# Altium integrated library LIB2022 - Passives.IntLib: 26 symbols
Pins are listed as number, name and electrical type; pins without a type are passive.

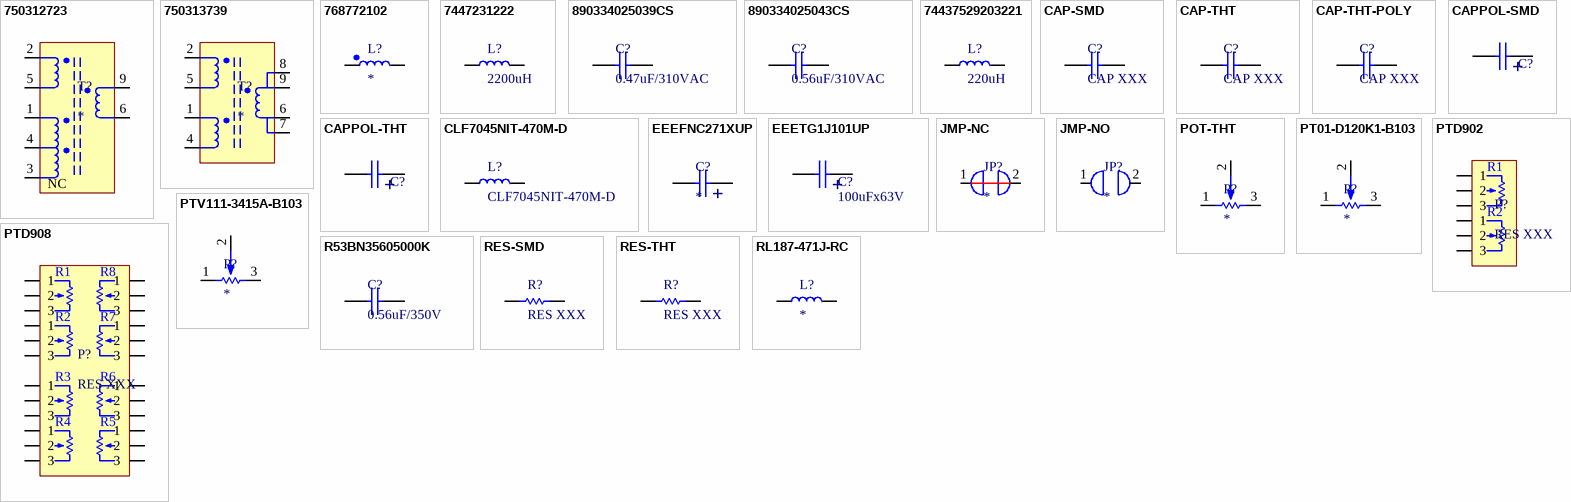
[diagram p0: symbols 750312723 to RL187-471J-RC]

## 750312723
designator T?
Flyback Converters For For DC/DC Converters SMPS Transformer 4500Vrms Isolation 130kHz Through Hole
footprint 750312723
pins: 1, 2, 3 NC, 4, 5, 6, 9

## 750313739
designator T?
Flyback Converters For SMPS Transformer Isolation 115kHz Through Hole
footprint 750313739
pins: 1, 2, 4, 5, 6, 7, 8, 9

## 768772102
designator L?
1 mH Unshielded Drum Core, Wirewound Inductor 500 mA 2.08Ohm Max Radial, Vertical Cylinder (Open)
footprint 768772102
pins: 1, 2

## 7447231222
designator L?, comment 2200uH
2.2 mH Unshielded Wirewound Inductor 540 mA 1.9Ohm Max Radial, Vertical Cylinder, 4 Leads; Digikey_PN: 732-7184-ND
footprint 7447231222 (Choke Inductor 10.5mm)
pins: 1, 2

## 890334025039CS
designator C?, comment 0.47uF/310VAC
0.47 µF Film Capacitor 310VAC 630VDC Polypropylene (PP), Metallized Radial; Digikey_PN: 732-5755-ND
footprint 890334025039CS
pins: 1, 2

## 890334025043CS
designator C?, comment 0.56uF/310VAC
0.56 µF Film Capacitor 310VAC 630VDC Polypropylene (PP), Metallized Radial; Digikey_PN: 732-5756-ND
footprint 890334025043CS
pins: 1, 2

## 74437529203221
designator L?, comment 220uH
220 µH Shielded Drum Core, Wirewound Inductor 8.8 A 36.45mOhm Nonstandard
footprint 74437529203221 (Choke Inductor SMD)
pins: 1, 2

## CAP-SMD
designator C?, comment CAP XXX
footprint 0402-CAP-TDK
footprint 0603-CAP-TDK
footprint 0805-CAP-TDK
footprint 1206-CAP-TDK
footprint 1210-CAP-TDK
pins: 1, 2

## CAP-THT
designator C?, comment CAP XXX
footprint CAP100
footprint CAP200
footprint CAP300
pins: 1, 2

## CAP-THT-POLY
designator C?, comment CAP XXX
footprint CAP300v2
pins: 1, 2

## CAPPOL-SMD
designator C?
footprint DIA8X10-CAP-SMD
pins: 1, 2
text: +

## CAPPOL-THT
designator C?
footprint CAP100RP (Body diameter 5mm)
footprint CAP200RP (Body Diameter 10.33mm)
footprint CAP300RP (Body Diameter 16mm)
pins: 1, 2
text: +

## CLF7045NIT-470M-D
designator L?
47 µH Shielded Drum Core, Wirewound Inductor 1.26 A 160mOhm Max Nonstandard; Digikey_PN: 445-174177-1-ND
footprint CLF7045NIT-470M-D (NonStandard Inductor)
pins: 1, 2

## EEEFNC271XUP
designator C?
270uF 16V 280mA@100kHz 340mΩ@100kHz ±20%; JLCPart: C494811; Digikey_PN: 10-EEE-FNC271XUPCT-ND
footprint DIA6.3xL7.7mm-CAP-SMD
pins: 1, 2
text: +

## EEETG1J101UP
designator C?, comment 100uFx63V
100µF 63V 800mOhm @ 100kHz 2000 Hrs @ 125°C; Digikey_PN: PCE4086CT-ND
footprint DIA10X10.2-CAP-SMD
pins: 1, 2
text: +

## JMP-NC
designator JP?
Jumper Pad NC
footprint JUMPNC
footprint JUMPNC-SMD
pins: 1 IN1, 2 IN2

## JMP-NO
designator JP?  (no BOM)
Jumper Pad NO
footprint JUMPNO
footprint JUMPNO-SMD
pins: 1 IN1, 2 IN2

## POT-THT
designator P?
footprint POT-THT
pins: 1, 2, 3

## PT01-D120K1-B103
designator P?
POT 10K OHM 1/20W CARBON LINEAR; Digikey_PN: 2223-PT01-D120K1-B103-ND
footprint PT01-D120K1-B103
pins: 1, 2, 3

## PTD902
designator P?, comment RES XXX
Multi-Ganged Potentiometer
footprint PTD902-XX15K-XXXX
pins: R1-1 1, R1-2 2, R1-3 3, R2-1 1, R2-2 2, R2-3 3
text: R1; R2

## PTD908
designator P?, comment RES XXX
Multi-Ganged Potentiometer
footprint PTD908-XX15K-XXXX
pins: R1-1 1, R1-2 2, R1-3 3, R2-1 1, R2-2 2, R2-3 3, R3-1 1, R3-2 2, R3-3 3, R4-1 1, R4-2 2, R4-3 3, R5-1 1, R5-2 2, R5-3 3, R6-1 1, R6-2 2, R6-3 3, R7-1 1, R7-2 2, R7-3 3, R8-1 1, R8-2 2, R8-3 3
text: R1; R8; R2; R7; R3; R6; R4; R5

## PTV111-3415A-B103
designator P?
POT 10K OHM 1/20W CARBON LINEAR; Digikey_PN: PTV111-3415A-B103-ND
footprint PTV111-3
pins: 1, 2, 3

## R53BN35605000K
designator C?, comment 0.56uF/350V
0.56 µF Film Capacitor 350V 800V Polypropylene (PP), Metallized Radial; Digikey_PN: 399-R53BN35605000K-ND
footprint R53BN35605000K
pins: 1, 2

## RES-SMD
designator R?, comment RES XXX
footprint 0402-RES-PANASONIC
footprint 0603-RES-PANASONIC
footprint 0805-RES-PANASONIC
footprint 1206-RES-PANASONIC
footprint 2512-RES-PANASONIC
footprint 0201-RES-PANASONIC
footprint 2010-RES-PANASONIC
footprint 1210-RES-PANASONIC
pins: 1, 2

## RES-THT
designator R?, comment RES XXX
footprint RES300
footprint RES400
footprint RES500
footprint RES600
footprint RES1000
footprint RES1000 - NOSILK
pins: 1, 2

## RL187-471J-RC
designator L?
footprint RL187-471J-RC
pins: 1, 2